# EAGLE library part INDICATOR_7_SEGMENTS (library my_devices)
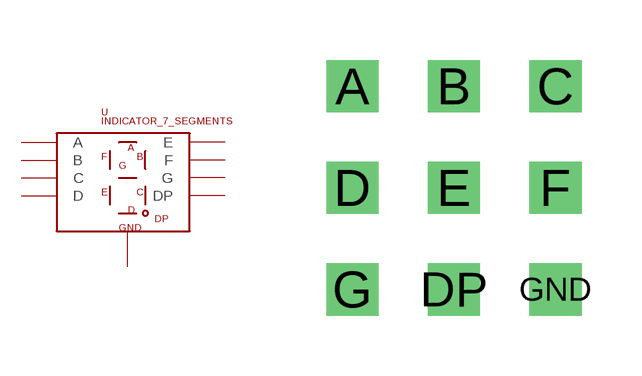
[diagram p24: symbol with the pads of INDICATOR_7_SEGMENT; footprint INDICATOR_7_SEGMENT]

Designator prefix U

## INDICATOR_7_SEGMENTS  [INDICATOR_7_SEGMENT]
A  A
B  B
C  C
D  D
DP  DP
E  E
F  F
G  G
GND  GND

## Footprint INDICATOR_7_SEGMENT (pad centres in mm)
drill 0.8 square: A -2.54,2.54; B 0,2.54; C 2.54,2.54; D -2.54,0; DP 0,-2.54; E 0,0; F 2.54,0; G -2.54,-2.54; GND 2.54,-2.54